# Altium footprint library Boost Converter.PcbLib: 7 footprints
Each footprint in its own frame and in the unit in brackets; x right, y up, seen from the top. Pads: shape width x height; smd on the part's side, far side on the other; paste and mask are expansions set on the pad; w line width, h text height; cw(c..) or ccw(c..) is an arc to the next point about the centre after c.
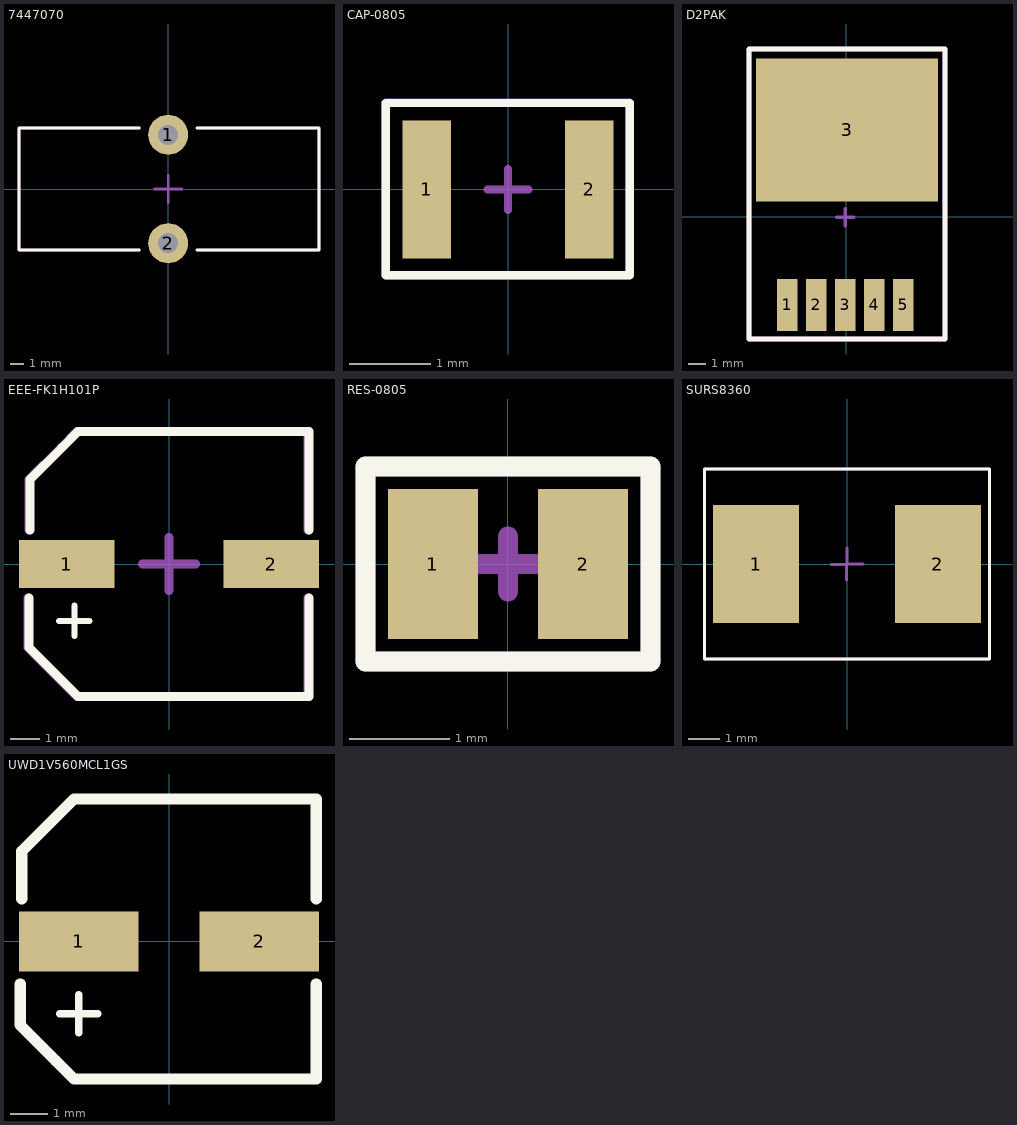
[diagram p0: the footprints below, top view; thin cyan lines are the x and y axes]

## 7447070 [mm]
pads (2):
  round 3 hole 1.5: 1(0,4.064) 2(0,-4.064)
Top Overlay:
  lines w0.2: -2.159,-4.572 -11.176,-4.572 -11.176,4.572 -2.159,4.572 ; 2.159,-4.572 11.303,-4.572 11.303,4.572 2.159,4.572
Mechanical 15:
  lines w0.2: -2.159,-4.572 -11.176,-4.572 -11.176,4.572 -2.159,4.572 ; -1.016,0 0,0 ; 0,-1.016 0,0 ; 0,1.016 0,0 ; 1.016,0 0,0 ; 2.159,-4.572 11.303,-4.572 11.303,4.572 2.159,4.572
3D body "7447070.stp": height 22.21, standoff -14.69, extent -11.209,-4.496 11.209,4.496

## CAP-0805 [mm]
pads (2):
  rect 0.6x1.7 smd: 1(-1,0) 2(1,0)
Top Overlay:
  lines w0.1: -1.508,-1.058 -1.508,1.067 1.501,1.067 1.501,-1.058 -1.508,-1.058
Mechanical 15:
  lines w0.1: -0.254,0 0,0 ; 0,-0.254 0,0 ; 0,0.254 0,0 ; 0.254,0 0,0 ; -1.508,-1.059 -1.508,1.071 1.501,1.071 1.501,-1.059 -1.508,-1.059
3D body "C0805C684K5RACTU.step": height 1.45, standoff 0, extent -1.096,-0.721 1.104,0.729

## D2PAK [mm]
pads (6):
  rect 1.2x3.05 smd: 1(-3.454,-5.15) 2(-1.752,-5.15) 3(-0.05,-5.15) 4(1.652,-5.15) 5(3.354,-5.15)
  rect 10.66x8.38 smd: 3(0.046,5.1)
Top Overlay:
  lines w0.3: -5.704,-7.15 5.796,-7.15 5.796,9.85 -5.704,9.85 -5.704,-7.15
Mechanical 15:
  lines w0.2: -0.55,-0.025 0.45,-0.025 -0.05,-0.025 -0.05,0.475 -0.05,-0.525
  lines w0.3: -5.704,-7.15 -5.704,9.85 5.796,9.85 5.796,-7.15 -5.704,-7.15
3D body "TO263-5.STEP": height 4.65, standoff -0.15, extent -5.112,-5.926 5.048,8.425

## EEE-FK1H101P [mm]
pads (2):
  rect 3.2x1.6 smd: 1(-3.429,0) 2(3.429,0)
Top Overlay:
  lines w0.2: -3.683,-1.905 -2.667,-1.905 ; -3.175,-2.413 -3.175,-1.397
  lines w0.3: -4.699,-1.143 -4.699,-2.794 -3.048,-4.445 4.699,-4.445 4.699,-1.143 ; -4.667,1.143 -4.667,2.826 -3.588,3.905 -3.048,4.445 4.699,4.445 4.699,1.143
Mechanical 15:
  lines w0.3: -4.731,-1.143 -4.731,-2.794 -3.08,-4.445 4.667,-4.445 4.667,-1.143 ; -4.699,1.143 -4.699,2.826 -3.619,3.905 -3.08,4.445 4.667,4.445 4.667,1.143 ; -0.889,0 0,0 ; 0,-0.889 0,0 ; 0,0.889 0,0 ; 0.889,0 0,0
3D body "EEE-FK1H101P.stp": height 10.2, standoff 0, extent -4.85,-4.15 4.85,4.15

## RES-0805 [mm]
pads (2):
  rect 0.9x1.5 smd: 1(-0.75,0) 2(0.75,0)
Top Overlay:
  lines w0.2: -1.425,-0.975 1.425,-0.975 1.425,0.975 -1.425,0.975 -1.425,-0.975
Mechanical 15:
  lines w0.2: -0.275,0 0,0 ; 0,-0.275 0,0 ; 0,0.275 0,0 ; 0.275,0 0,0 ; -1.425,-0.975 1.425,-0.975 1.425,0.975 -1.425,0.975 -1.425,-0.975
3D body "RES-0805.STEP": height 0.65, standoff 0, extent -1,-0.625 1,0.625

## SURS8360 [mm]
pads (2):
  rect 2.75x3.79 smd: 1(-2.921,0) 2(2.921,0)
Top Overlay:
  lines w0.1: -4.572,-3.048 -4.572,3.048 4.572,3.048 4.572,-3.048 -4.572,-3.048
Mechanical 15:
  lines w0.1: -0.519,-0.01 -0.011,-0.01 -0.011,-0.518 ; 0,0.508 0,0 0.508,0 ; -4.572,-3.048 4.572,-3.048 4.572,3.048 -4.572,3.048 -4.572,-3.048
3D body "SURS8360T3G.STEP": height 2.6, standoff -0.01, extent -3.975,-2.95 3.975,2.95

## UWD1V560MCL1GS [mm]
pads (2):
  rect 3.2x1.6 smd: 1(-2.413,0) 2(2.413,0)
Top Overlay:
  lines w0.2: -2.921,-1.937 -1.905,-1.937 -2.349,-1.937 -2.413,-1.873 -2.413,-1.429 -2.413,-2.445
  lines w0.3: -3.982,-1.143 -3.982,-2.241 -3.556,-2.667 -3.027,-3.196 -2.54,-3.683 3.937,-3.683 3.937,-1.143 ; -3.937,1.143 -3.937,2.413 -2.54,3.81 3.937,3.81 3.937,1.143
3D body "UWD1V560MCL1GS.step": height 8.05, standoff 0, extent -3.696,-3.404 3.696,3.404